# EAGLE library part TS3DV421RUAR (library TS3DV421RUAR)
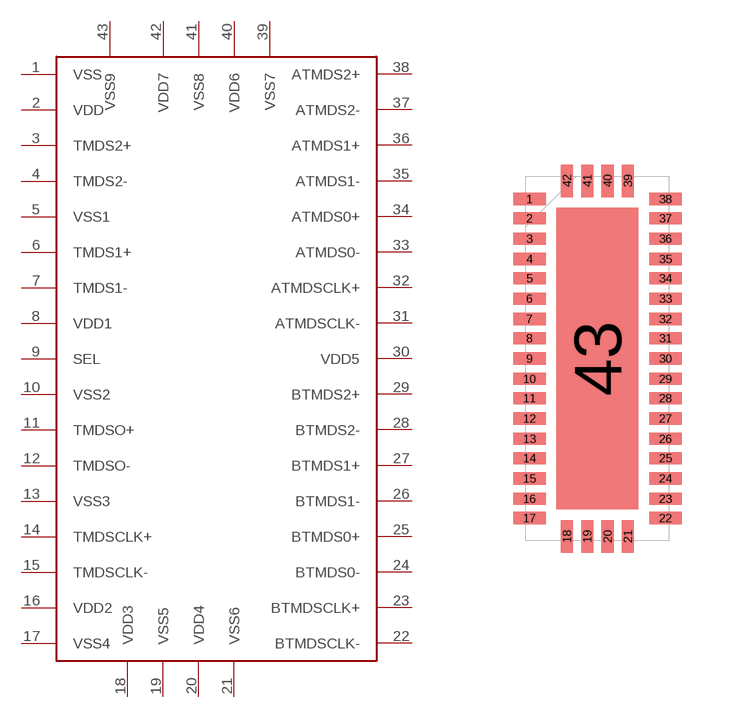
[diagram p0: symbol with the pads of QFN50P350X900X80-43N; footprint QFN50P350X900X80-43N]

Designator prefix -

## TS3DV421RUAR  [QFN50P350X900X80-43N]
1  VSS
2  VDD
3  TMDS2+
4  TMDS2-
5  VSS1
6  TMDS1+
7  TMDS1-
8  VDD1
9  SEL
10  VSS2
11  TMDSO+
12  TMDSO-
13  VSS3
14  TMDSCLK+
15  TMDSCLK-
16  VDD2
17  VSS4
18  VDD3
19  VSS5
20  VDD4
21  VSS6
22  BTMDSCLK-
23  BTMDSCLK+
24  BTMDS0-
25  BTMDS0+
26  BTMDS1-
27  BTMDS1+
28  BTMDS2-
29  BTMDS2+
30  VDD5
31  ATMDSCLK-
32  ATMDSCLK+
33  ATMDS0-
34  ATMDS0+
35  ATMDS1-
36  ATMDS1+
37  ATMDS2-
38  ATMDS2+
39  VSS7
40  VDD6
41  VSS8
42  VDD7
43  VSS9

## Footprint QFN50P350X900X80-43N (pad centres in mm)
smd 0.813 x 0.305: 1 -1.702,3.988; 2 -1.702,3.505; 3 -1.702,2.997; 4 -1.702,2.489; 5 -1.702,2.007; 6 -1.702,1.499; 7 -1.702,0.991; 8 -1.702,0.508; 9 -1.702,0; 10 -1.702,-0.508; 11 -1.702,-0.991; 12 -1.702,-1.499; 13 -1.702,-2.007; 14 -1.702,-2.489; 15 -1.702,-2.997; 16 -1.702,-3.505; 17 -1.702,-3.988; 22 1.702,-3.988; 23 1.702,-3.505; 24 1.702,-2.997; 25 1.702,-2.489; 26 1.702,-2.007; 27 1.702,-1.499; 28 1.702,-0.991; 29 1.702,-0.508; 30 1.702,0; 31 1.702,0.508; 32 1.702,0.991; 33 1.702,1.499; 34 1.702,2.007; 35 1.702,2.489; 36 1.702,2.997; 37 1.702,3.505; 38 1.702,3.988
smd 0.305 x 0.813: 18 -0.762,-4.445; 19 -0.254,-4.445; 20 0.254,-4.445; 21 0.762,-4.445; 39 0.762,4.445; 40 0.254,4.445; 41 -0.254,4.445; 42 -0.762,4.445
smd 2.057 x 7.544: 43 0,0